# EAGLE library part D1213A-DIODE-ARRAY (library foe-scale)
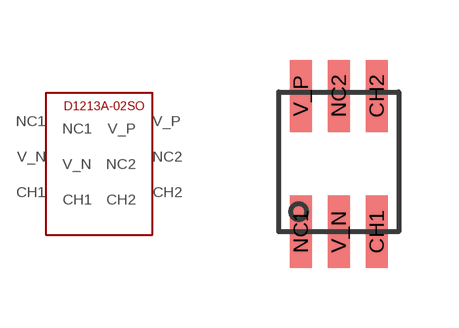
[diagram p13: symbol with the pads of SOT26-DIODE-ARRAY; footprint SOT26-DIODE-ARRAY]

Designator prefix D

## D1213A-DIODE-ARRAY  [SOT26-DIODE-ARRAY]
CH1  CH1
CH2  CH2
NC1  NC1
NC2  NC2
V_N  V_N
V_P  V_P

## Footprint SOT26-DIODE-ARRAY (pad centres in mm)
smd 0.55 x 1.8: CH1 0.95,0; CH2 0.95,3.4; NC1 -0.95,0; NC2 0,3.4; V_N 0,0; V_P -0.95,3.4